# Altium footprint library J 接插件.PcbLib: 458 footprints (part 3 of 29)
Each footprint in its own frame and in the unit in brackets; x right, y up, seen from the top. Pads: shape width x height; smd on the part's side, far side on the other; paste and mask are expansions set on the pad; w line width, h text height; cw(c..) or ccw(c..) is an arc to the next point about the centre after c.
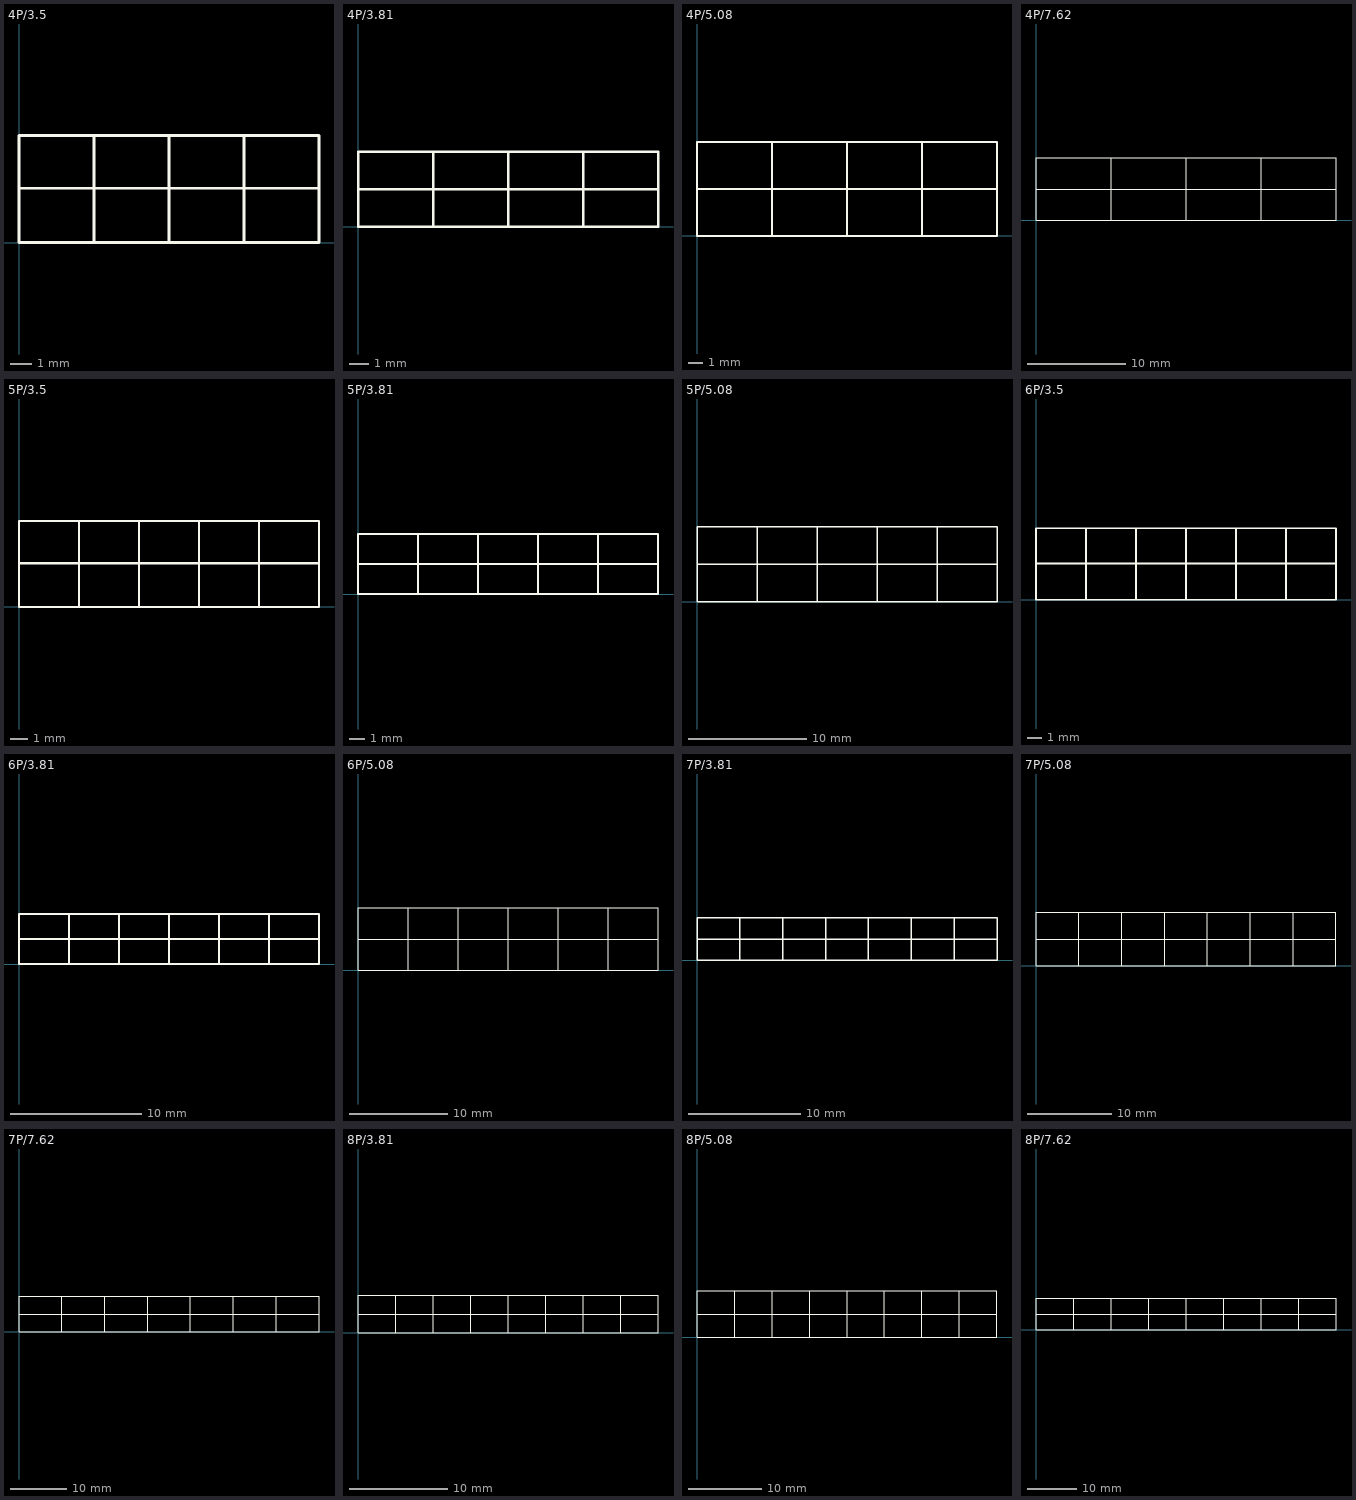
[diagram p2: the footprints below, top view; thin cyan lines are the x and y axes]

## 4P/3.5 [mil] "头，间距3.5"
height 393.7
Top Overlay:
  lines w5: 0,100 551.18,100 ; 137.8,0 137.8,196.85 ; 275.59,0 275.59,196.85 ; 413.39,0 413.39,196.85 ; 0,0 0,196.85 551.18,196.85 551.18,0 0,0

## 4P/3.81 [mil] "ͷ"
height 905.51
Top Overlay:
  lines w5: 0,75 600,75 ; 150,0 150,150 ; 300,0 300,150 ; 450,0 450,150 ; 0,0 600,0 600,150 0,150 0,0

## 4P/5.08 [mil] "ͷ"
height 393.7
Top Overlay:
  lines w5: 0,125 800,125 ; 200,0 200,250 ; 400,0 400,250 ; 600,0 600,250 ; 0,0 0,250 800,250 800,0 0,0

## 4P/7.62 [mil] "ͷ"
height 748.03
Top Overlay:
  lines w5: 0,125 1200,125 ; 300,0 300,250 ; 600,0 600,250 ; 900,0 900,250 ; 0,0 1200,0 1200,250 0,250 0,0

## 5P/3.5 [mil] "头，间距3.5"
height 393.7
Top Overlay:
  lines w5: 0,100 688.98,100 ; 137.8,0 137.8,196.85 ; 275.59,0 275.59,196.85 ; 413.39,0 413.39,196.85 ; 551.18,0 551.18,196.85 ; 0,0 688.98,0 688.98,196.85 0,196.85 0,0

## 5P/3.81 [mil] "ͷ"
height 905.51
Top Overlay:
  lines w5: 0,75 750,75 ; 150,0 150,150 ; 300,0 300,150 ; 450,0 450,150 ; 600,0 600,150 ; 0,0 750,0 750,150 0,150 0,0

## 5P/5.08 [mil] "ͷ"
height 393.7
Top Overlay:
  lines w5: 0,125 1000,125 ; 200,0 200,250 ; 400,0 400,250 ; 600,0 600,250 ; 800,0 800,250 ; 0,0 0,250 1000,250 1000,0 0,0

## 6P/3.5 [mil] "头，间距3.5"
height 393.7
Top Overlay:
  lines w5: 0,100 826.77,100 ; 137.8,0 137.8,196.85 ; 275.59,0 275.59,196.85 ; 413.39,0 413.39,196.85 ; 551.18,0 551.18,196.85 ; 688.98,0 688.98,196.85 ; 0,0 0,196.85 826.77,196.85 826.77,0 0,0

## 6P/3.81 [mil] "ͷ"
height 905.51
Top Overlay:
  lines w5: 0,75 900,75 ; 150,0 150,150 ; 300,0 300,150 ; 450,0 450,150 ; 600,0 600,150 ; 750,0 750,150 ; 0,0 0,150 900,150 900,0 0,0

## 6P/5.08 [mil] "ͷ"
height 393.7
Top Overlay:
  lines w5: 0,125 1200,125 ; 200,0 200,250 ; 400,0 400,250 ; 600,0 600,250 ; 800,0 800,250 ; 1000,0 1000,250 ; 0,0 1200,0 1200,250 0,250 0,0

## 7P/3.81 [mil] "ͷ"
height 905.51
Top Overlay:
  lines w5: 0,75 1050,75 ; 150,0 150,150 ; 300,0 300,150 ; 450,0 450,150 ; 600,0 600,150 ; 750,0 750,150 ; 900,0 900,150 ; 0,0 0,150 1050,150 1050,0 0,0

## 7P/5.08 [mil] "ͷ"
height 393.7
Top Overlay:
  lines w5: 0,125 1400,125 ; 200,0 200,250 ; 400,0 400,250 ; 600,0 600,250 ; 800,0 800,250 ; 1000,0 1000,250 ; 1200,0 1200,250 ; 0,0 0,250 1400,250 1400,0 0,0

## 7P/7.62 [mil] "ͷ"
height 748.03
Top Overlay:
  lines w5: 0,125 2100,125 ; 300,0 300,250 ; 600,0 600,250 ; 900,0 900,250 ; 1200,0 1200,250 ; 1500,0 1500,250 ; 1800,0 1800,250 ; 0,0 2100,0 2100,250 0,250 0,0

## 8P/3.81 [mil] "ͷ"
height 905.51
Top Overlay:
  lines w5: 0,75 1200,75 ; 150,0 150,150 ; 300,0 300,150 ; 450,0 450,150 ; 600,0 600,150 ; 750,0 750,150 ; 900,0 900,150 ; 1050,0 1050,150 ; 0,0 0,150 1200,150 1200,0 0,0

## 8P/5.08 [mil] "ͷ"
height 393.7
Top Overlay:
  lines w5: 0,125 1600,125 ; 200,0 200,250 ; 400,0 400,250 ; 600,0 600,250 ; 800,0 800,250 ; 1000,0 1000,250 ; 1200,0 1200,250 ; 1400,0 1400,250 ; 0,0 1600,0 1600,250 0,250 0,0

## 8P/7.62 [mil] "ͷ"
height 748.03
Top Overlay:
  lines w5: 0,125 2400,125 ; 300,0 300,250 ; 600,0 600,250 ; 900,0 900,250 ; 1200,0 1200,250 ; 1500,0 1500,250 ; 1800,0 1800,250 ; 2100,0 2100,250 ; 0,0 0,250 2400,250 2400,0 0,0